# EAGLE library part PS-JOYSTICK (library cpu)
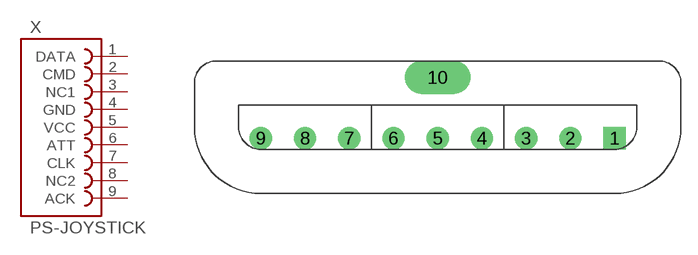
[diagram p11: symbol with the pads of PS-JOYSTICK; footprint PS-JOYSTICK]

Designator prefix X

## PS-JOYSTICK  [PS-JOYSTICK]
1  DATA  pas
2  CMD  pas
3  NC1  pas
4  GND  pas
5  VCC  pas
6  ATT  pas
7  CLK  pas
8  NC2  pas
9  ACK  pas

## Footprint PS-JOYSTICK (pad centres in mm)
drill 1 pad 2 square: 1 0,0
drill 1 pad 2: 2 -4,0; 3 -8,0; 4 -12,0; 5 -16,0; 6 -20,0; 7 -24,0; 8 -28,0; 9 -32,0
drill 2 long: 10 -16,5.5